# Altium footprint library screwire.PcbLib: 148 footprints (part 3 of 10)
Each footprint in its own frame and in the unit in brackets; x right, y up, seen from the top. Pads: shape width x height; smd on the part's side, far side on the other; paste and mask are expansions set on the pad; w line width, h text height; cw(c..) or ccw(c..) is an arc to the next point about the centre after c.
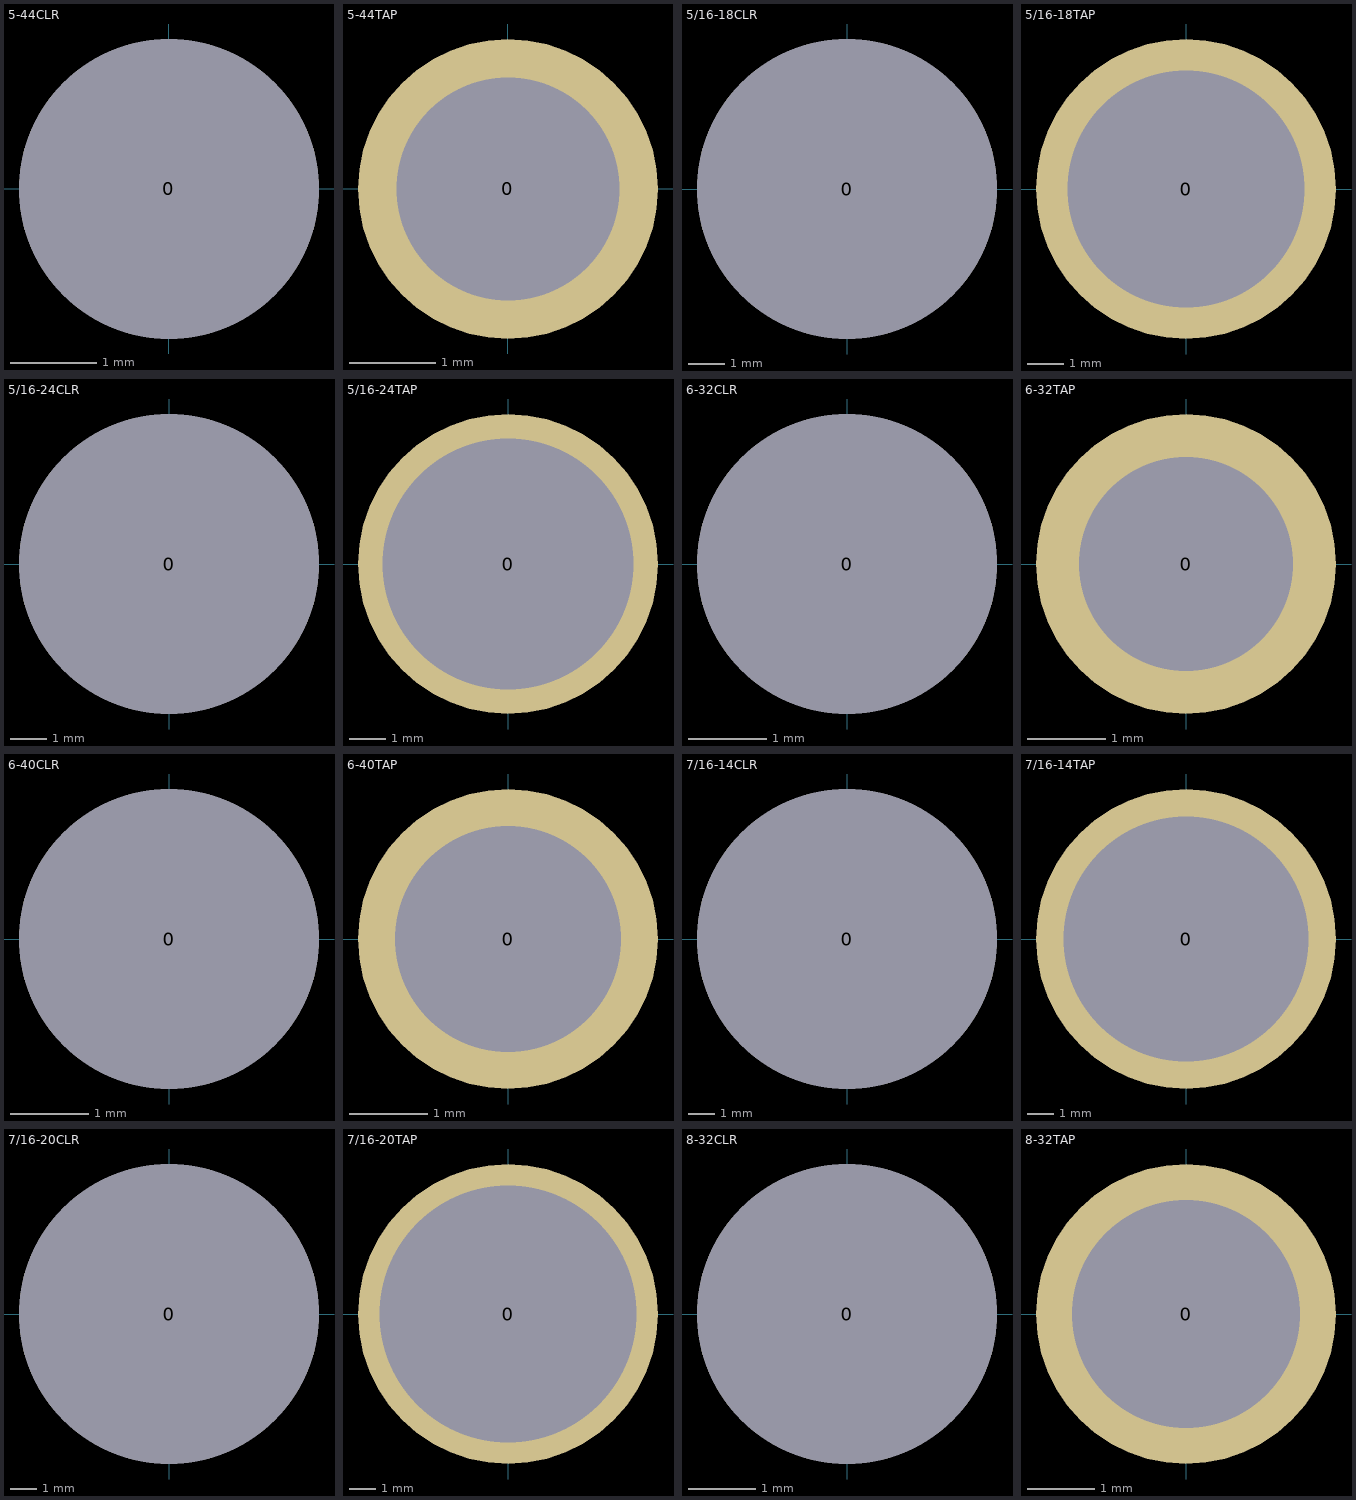
[diagram p2: the footprints below, top view; thin cyan lines are the x and y axes]

## 5-44CLR [mil]
pads (1):
  round 137 hole 137: 0(0,0)

## 5-44TAP [mil]
pads (1):
  round 137 hole 102: 0(0,0)

## 5/16-18CLR [mil]
pads (1):
  round 325 hole 325: 0(0,0)

## 5/16-18TAP [mil]
pads (1):
  round 325 hole 257: 0(0,0)

## 5/16-24CLR [mil]
pads (1):
  round 325 hole 325: 0(0,0)

## 5/16-24TAP [mil]
pads (1):
  round 325 hole 272: 0(0,0)

## 6-32CLR [mil]
pads (1):
  round 150 hole 150: 0(0,0)

## 6-32TAP [mil]
pads (1):
  round 150 hole 107: 0(0,0)

## 6-40CLR [mil]
pads (1):
  round 150 hole 150: 0(0,0)

## 6-40TAP [mil]
pads (1):
  round 150 hole 113: 0(0,0)

## 7/16-14CLR [mil]
pads (1):
  round 450 hole 450: 0(0,0)

## 7/16-14TAP [mil]
pads (1):
  round 450 hole 368: 0(0,0)

## 7/16-20CLR [mil]
pads (1):
  round 450 hole 450: 0(0,0)

## 7/16-20TAP [mil]
pads (1):
  round 450 hole 386: 0(0,0)

## 8-32CLR [mil]
pads (1):
  round 176 hole 176: 0(0,0)

## 8-32TAP [mil]
pads (1):
  round 176 hole 134: 0(0,0)